# Altium footprint library 单灯控制器.PcbLib: 58 footprints (part 1 of 4)
Each footprint in its own frame and in the unit in brackets; x right, y up, seen from the top. Pads: shape width x height; smd on the part's side, far side on the other; paste and mask are expansions set on the pad; w line width, h text height; cw(c..) or ccw(c..) is an arc to the next point about the centre after c.
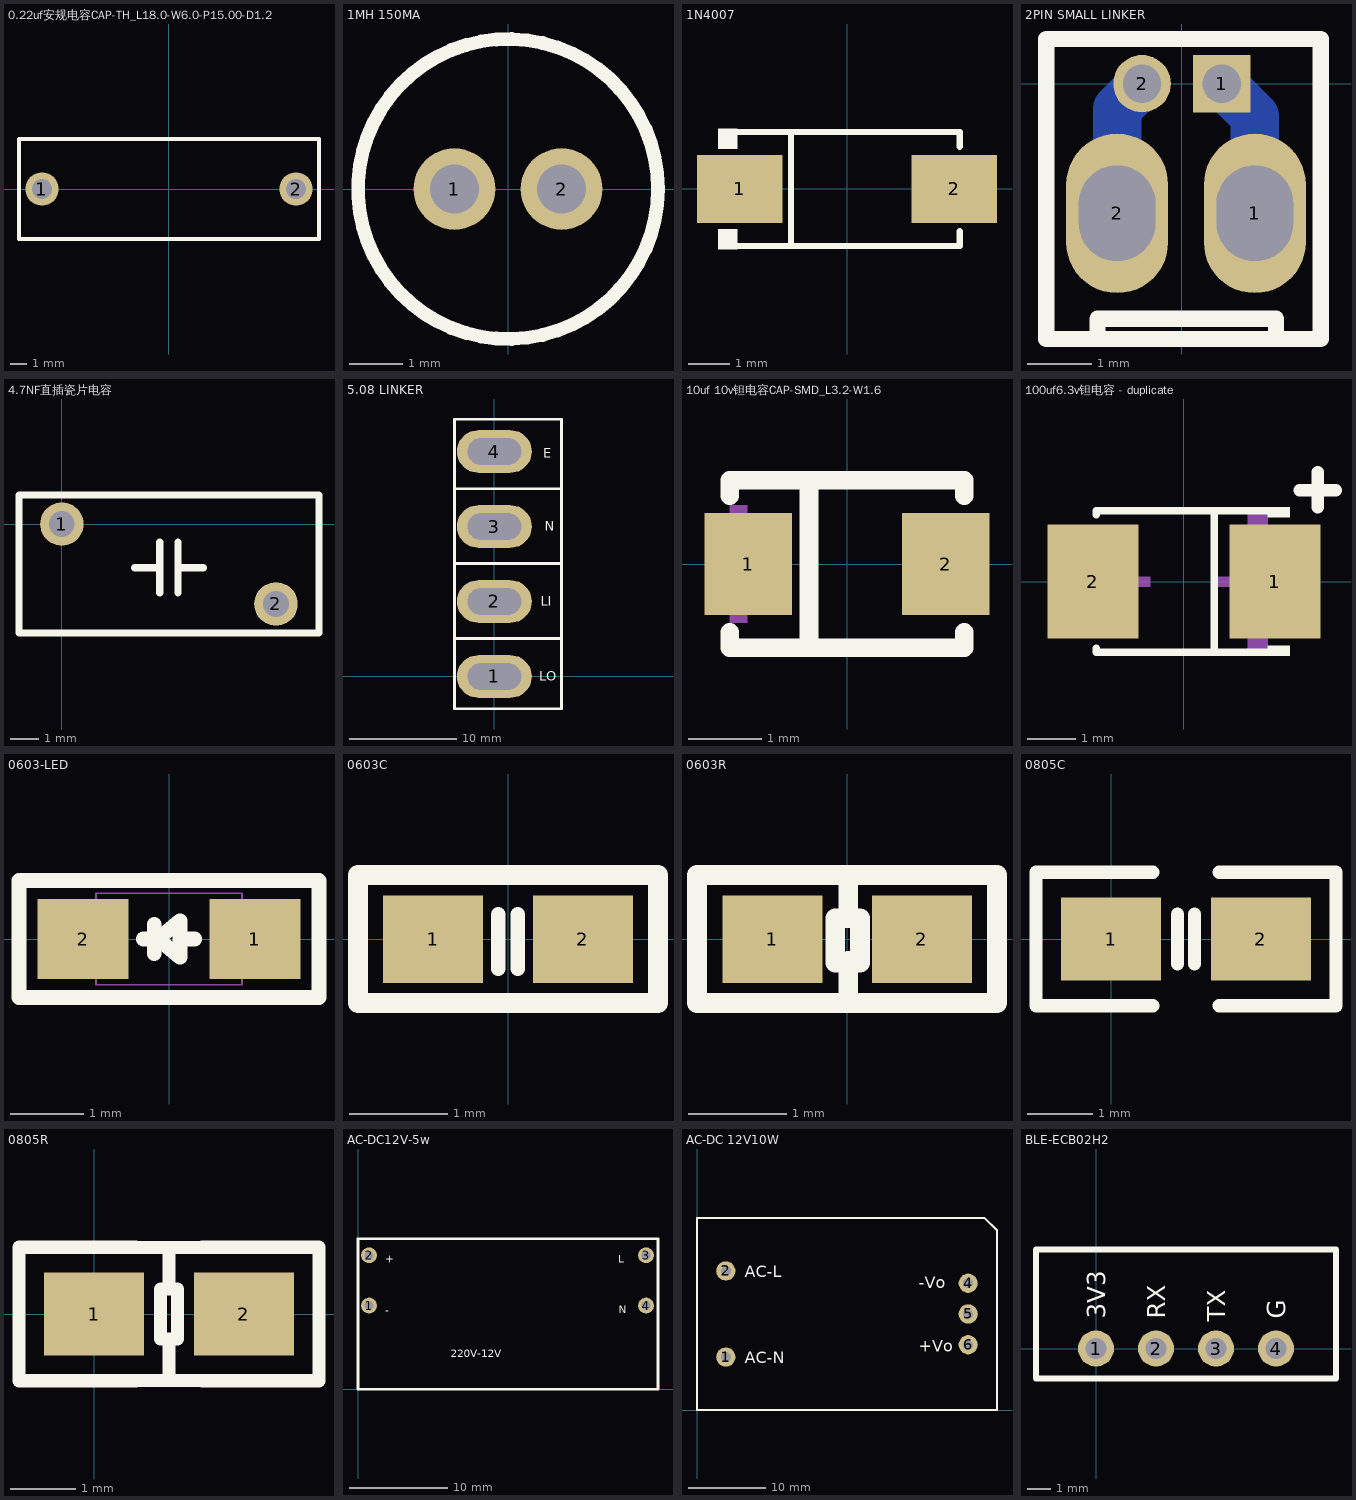
[diagram p0: the footprints below, top view; thin cyan lines are the x and y axes]

## 0.22uf安规电容CAP-TH_L18.0-W6.0-P15.00-D1.2 [mm]
pads (2):
  round 2 hole 1.2: 1(-7.62,0) 2(7.62,0)
Top Overlay:
  lines w0.254: -9,-3 9,-3 9,3 -9,3 -9,-3

## 1MH 150MA [mil]
pads (2):
  round 60 hole 36: 1(-39.37,0) 2(39.37,0)
Top Overlay:
  circle w10: c0,0 r110.24

## 1N4007 [mm]
pads (2):
  rect 2.046x1.62 smd: 1(-2.566,0) 2(2.565,0)
Top Overlay:
  region: -2.625,-1.44 -2.625,-0.962 -3.082,-0.962 -3.082,-1.44
  region: -2.625,1.44 -2.625,0.962 -3.082,0.962 -3.082,1.44
  lines w0.152: -2.701,-1.364 2.701,-1.364 2.701,-1.013 ; -2.701,1.364 2.701,1.364 2.701,1.013 ; -1.339,-1.364 -1.339,1.364

## 2PIN SMALL LINKER [mm]
pads (4):
  rect 0.9x0.9 hole 0.6: 1(0.625,0)
  oval 1.6x2.5 hole 1.5 slot 1.2 at 0 deg: 1(1.143,-2.032) 2(-1.016,-2.032)
  round 0.9 hole 0.6: 2(-0.625,0)
Top Layer:
  lines w0.254: 0.625,0 0.635,0
Bottom Layer:
  lines w0.762: -1.016,-2.032 -1.016,-0.391 -0.625,0 ; 0.635,0 1.143,-0.508 1.143,-2.032
Top Overlay:
  lines w0.254: -2.125,-4 2.175,-4 2.175,0.7 -2.125,0.7 -2.125,-4 ; -1.325,-4 1.475,-4 1.475,-3.683 -1.325,-3.683 -1.325,-4

## 4.7NF直插瓷片电容 [mil]
pads (2):
  round 60 hole 35.43: 1(0,0) 2(295,-110)
Top Overlay:
  lines w10: 100,-60 135,-60 ; 135,-95 135,-25 ; 160,-95 160,-25 ; 160,-60 195,-60 ; -59.06,-150 -59.06,40 354.33,40 354.33,-150 -59.06,-150

## 5.08 LINKER [mm] "5.08MM间距接线端子"
pads (4):
  oval 7x4 hole 2.5 slot 5 at 0 deg: 1(0,0) 2(0,7) 3(0,14) 4(0,21)
Top Overlay:
  lines w0.254: -3.73,3.556 6.27,3.556 ; -3.73,10.541 6.27,10.541 ; -3.73,17.526 6.27,17.526 ; -3.73,-3 -3.73,24 6.27,24 6.27,-3 -3.73,-3
  text "LO" at 4.191,-0.381 h0.9
  text "LI" at 4.318,6.619 h0.9
  text "N" at 4.699,13.619 h0.9
  text "E" at 4.572,20.41 h0.9
Bottom Overlay:
  text "E" at 5.08,20.455 h0.9
  text "N" at 5.334,13.619 h0.9
  text "LI" at 5.461,6.619 h0.9
  text "LO" at 5.715,-0.381 h0.9

## 10uf 10v钽电容CAP-SMD_L3.2-W1.6 [mm]
pads (2):
  rect 1.2x1.4 smd: 1(-1.35,0) 2(1.35,0)
Top Overlay:
  lines w0.254: -1.6,-0.931 -1.6,-1.143 -0.128,-1.143 1.6,-1.143 1.6,-0.931 ; -1.6,0.931 -1.6,1.143 1.6,1.143 1.6,0.931 ; -0.52,-1.143 -0.52,1.143
Mechanical 15:
  region: 1.48,0.06 1.48,-0.06 1,-0.06 1,0.06
  region: -1.48,0.06 -1.48,-0.06 -1,-0.06 -1,0.06
  region: -1.3,0.4 -1.3,-0.4 -1.18,-0.4 -1.18,0.4
  region: -1.6,0.8 -1.6,0.4 -1.36,0.4 -1.36,0.8
  region: -1.6,-0.8 -1.6,-0.4 -1.36,-0.4 -1.36,-0.8

## 100uf6.3v钽电容 - duplicate [mm]
pads (2):
  rect 1.9x2.376 smd: 1(1.899,0) 2(-1.899,0)
Top Overlay:
  region: 1.75,1.552 1.75,1.34 2.207,1.34 2.207,1.552
  region: 1.75,-1.552 1.75,-1.34 2.207,-1.34 2.207,-1.552
  lines w0.152: -1.826,-1.391 -1.826,-1.476 1.826,-1.476 ; -1.826,1.391 -1.826,1.476 1.826,1.476 ; 0.635,-1.476 0.635,1.476
  lines w0.254: 2.413,1.905 3.175,1.905 ; 2.794,1.552 2.794,2.286
Mechanical 15:
  region: -1.54,-0.105 -1.54,0.105 -0.7,0.105 -0.7,-0.105
  region: 1.54,-0.105 1.54,0.105 0.7,0.105 0.7,-0.105
  region: 1.225,-0.7 1.225,0.7 1.015,0.7 1.015,-0.7
  region: 1.75,-1.4 1.75,-0.7 1.33,-0.7 1.33,-1.4
  region: 1.75,1.4 1.75,0.7 1.33,0.7 1.33,1.4

## 0603-LED [mil]
height 170.08
pads (2):
  rect 49x43 smd: 1(46.26,0) 2(-46.26,0)
Top Overlay:
  lines w7.87: -13.78,0 -5.91,0 ; -7.87,-7.87 -7.87,7.87 ; 5.91,0 13.78,0 ; -5.91,0 5.91,-9.84 5.91,9.84 -5.91,0 ; -80.71,-31.5 -80.71,31.5 80.71,31.5 80.71,-31.5 -80.71,-31.5
Mechanical 8:
  lines w1: -39.37,-24.61 -39.37,24.61 39.37,24.61 39.37,-24.61 -39.37,-24.61

## 0603C [mil]
height 170.08
pads (2):
  rect 40x35 smd: 1(-29.92,0) 2(29.92,0)
Top Overlay:
  lines w5.91: -3.94,-11.81 -3.94,9.84 ; 3.94,-11.81 3.94,9.84
  lines w7.87: -60,-25.59 60,-25.59 60,25.59 -60,25.59 -60,-25.59

## 0603R [mil]
height 170.08
pads (2):
  rect 40x35 smd: 1(-29.92,0) 2(29.92,0)
Top Overlay:
  lines w7.87: 0.39,-21.65 0.39,-8.66 ; 0.39,9.45 0.39,21.65 ; -60.07,-25.59 -60.07,25.59 59.93,25.59 59.93,-25.59 -60.07,-25.59 ; -4.72,-9.45 5.12,-9.45 5.12,8.27 -4.72,8.27 -4.72,-9.45

## 0805C [mil]
pads (2):
  rect 60x50 smd: 1(0,0) 2(90,0)
Top Overlay:
  lines w7.87: 40,-15 40,15 ; 50,-15 50,15
  lines w8: 25,-40 -45,-40 -45,40 25,40 ; 65,-40 135,-40 135,40 65,40

## 0805R [mil]
pads (2):
  rect 60x50 smd: 1(0,0) 2(90,0)
Top Overlay:
  lines w7.87: 25,-40 65,-40 ; 25,40 65,40 ; 45,-40 45,-15 ; 45,15 45,40 ; 40,-15 40,15 50,15 50,-15 40,-15
  lines w8: 25,-40 -45,-40 -45,40 25,40 ; 65,-40 135,-40 135,40 65,40

## AC-DC12V-5w [mm]
pads (4):
  round 1.6 hole 0.9: 1(1.118,8.471) 2(1.118,13.551) 3(29.121,13.551) 4(29.121,8.471)
Top Overlay:
  lines w0.254: 0,0 0,15.24 30.328,15.24 30.328,0 0,0
  text "+" at 2.769,12.814 h0.76
  text "-" at 2.731,7.595 h0.76
  text "L" at 26.302,12.814 h0.76
  text "N" at 26.34,7.709 h0.76
  text "220V-12V" at 9.385,3.238 h0.76

## AC-DC 12V10W [mm]
pads (5):
  round 2.5 hole 1.3: 1(3.75,6.9) 2(3.75,18.1) 4(35.25,16.5) 5(35.25,12.5) 6(35.25,8.5)
Top Overlay:
  lines w0.254: 0,0 39,0 39,23.357 37.357,25 0,25 0,0
  text "AC-N" at 6.223,6.096 h1.52
  text "AC-L" at 6.223,17.272 h1.52
  text "+Vo" at 28.829,7.62 h1.52
  text "-Vo" at 28.829,15.875 h1.52

## BLE-ECB02H2 [mil]
pads (4):
  round 60 hole 35.43: 1(0,0) 2(100,0) 3(200,0) 4(300,0)
Top Overlay:
  lines w10: -100,-50 400,-50 400,165 -100,165 -100,-50
  text "G" at 315,50 h30
  text "TX" at 215,45 h30
  text "RX" at 115,50 h30
  text "3V3" at 15,50 h30